# EAGLE library part SRA-2000 (library minicircuits1)
Frequency mixer LO/RF: 100 MHz - 2000 MHz IF: DC-600 MHz LO power level: +7dBm RF up to 1 dBm Max conversion loss: 9.5 dB Min LO/RF & LO/IF: 20 dB Absolute maximum rating: RF power: 50 mW Peak IF current 40 mA
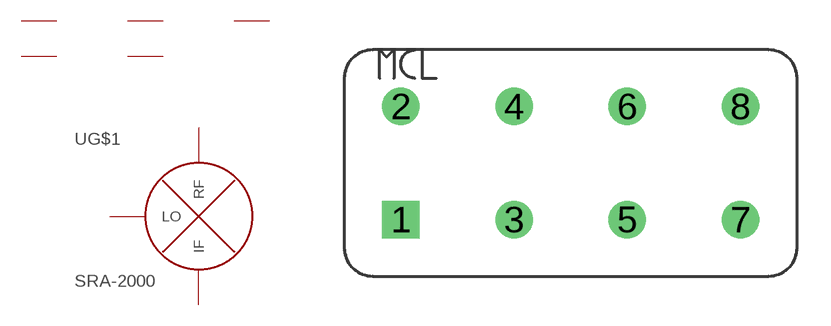
[diagram p3: symbol with the pads of A06; footprint A06]

Designator prefix -; gates G$1=RF-MIXER G$2=GND G$3=GND G$4=GND G$5=GND G$6=NC

## SRA-2000  [A06]
1  G$1:RF
2  G$2:GND  pwr
3  G$1:IF
4  G$6:NC  nc
5  G$3:GND  pwr
6  G$4:GND  pwr
7  G$5:GND  pwr
8  G$1:LO

## Footprint A06 (pad centres in mm)
drill 0.813 pad 1.676 square: 1 2.54,2.54
drill 0.813 pad 1.676: 2 2.54,7.62; 3 7.62,2.54; 4 7.62,7.62; 5 12.7,2.54; 6 12.7,7.62; 7 17.78,2.54; 8 17.78,7.62